# Altium schematic symbol library INA190A1IDCK.Schlib: 1 symbol
Pins are listed as number, name and electrical type; pins without a type are passive.

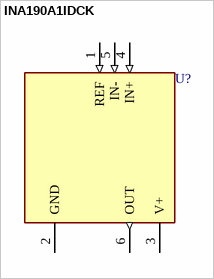
[diagram p0: symbol INA190A1IDCK]

## INA190A1IDCK
designator U?
AEC-Q100, 26V, bi-directional, high-precision current sense amplifier 6-SC70 -40 to 125
pins: 1 REF (in), 2 GND (power), 3 V+ (power), 4 IN+ (in), 5 IN- (in), 6 OUT (out)